# Altium integrated library Dallas Memory Non-Volatile RAM.IntLib: 259 symbols (part 3 of 5)
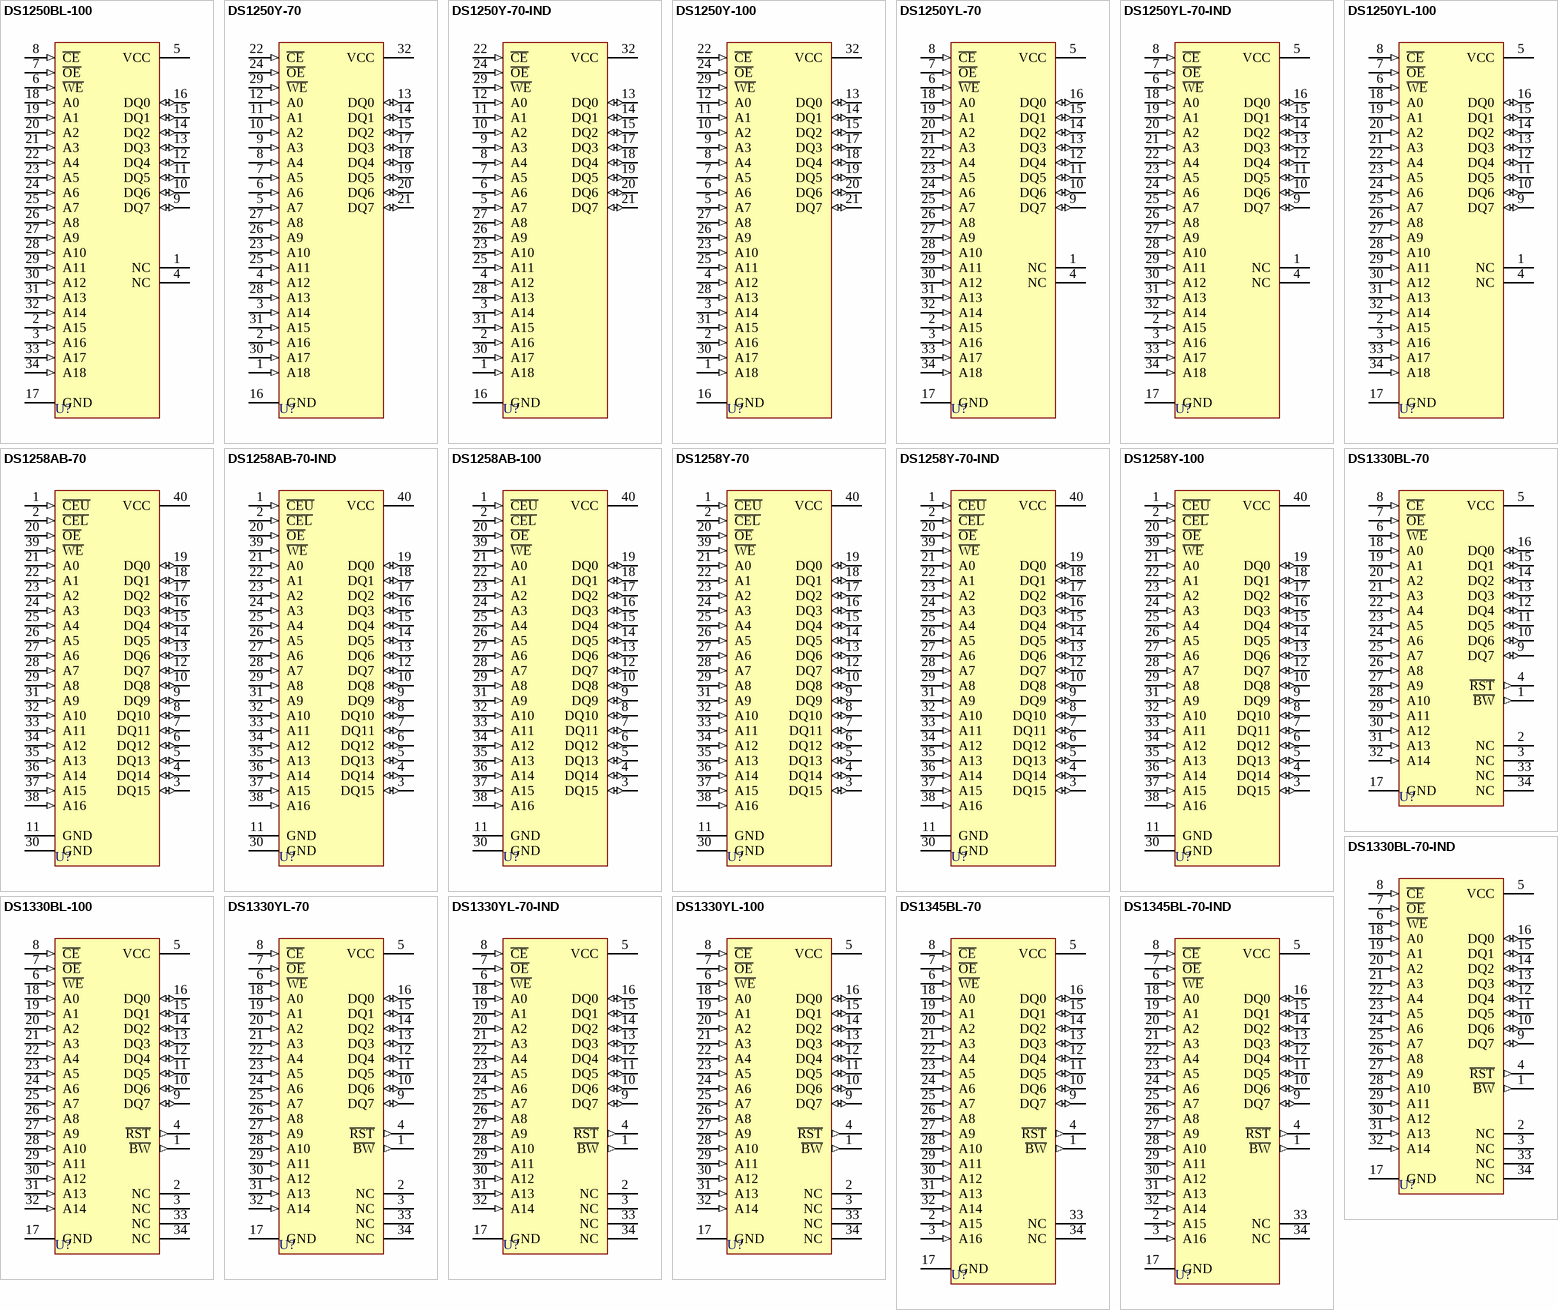
[diagram p13: symbols DS1250BL-100 to DS1345BL-70-IND]

## DS1250YL-100
designator U?
4096K Nonvolatile SRAM; Note: Pin numbers 1 and 4 are Not Connected (NC); Published: 13-Oct-2000; LatestRevisionDate: 17-Jul-2002; LatestRevisionNote: Re-released for DXP Platform.; DatasheetDocument: 25-Feb-1998; PackageDocument: Feb-1998; PackageReference: LPM34; Publisher: Altium Limited; ComponentLink1Description: Manufacturer Link; ComponentLink1URL: http://www.maxim-ic.com/; ComponentLink2Description: Datasheet; ComponentLink2URL: http://pdfserv.maxim-ic.com/en/ds/DS1233M.pdf
footprint LPM34 (LPM; 34 Leads; Body 24.6 x 25 mm (LxW typ); Pitch 1.27 mm)
pins: 1 NC, 2 A15 (in), 3 A16 (in), 4 NC, 5 VCC (power), 6 ~{WE} (in), 7 ~{OE} (in), 8 ~{CE} (in), 9 DQ7 (io), 10 DQ6 (io), 11 DQ5 (io), 12 DQ4 (io), 13 DQ3 (io), 14 DQ2 (io), 15 DQ1 (io), 16 DQ0 (io), 17 GND (power), 18 A0 (in), 19 A1 (in), 20 A2 (in), 21 A3 (in), 22 A4 (in), 23 A5 (in), 24 A6 (in), 25 A7 (in), 26 A8 (in), 27 A9 (in), 28 A10 (in), 29 A11 (in), 30 A12 (in), 31 A13 (in), 32 A14 (in), 33 A17 (in), 34 A18 (in)

## DS1258AB-70
designator U?
128K x 16 Nonvolatile SRAM; Published: 13-Oct-2000; LatestRevisionDate: 17-Jul-2002; LatestRevisionNote: Re-released for DXP Platform.; DatasheetDocument: 25-Feb-1998; PackageReference: ENDIP40; Publisher: Altium Limited; ComponentLink1Description: Manufacturer Link; ComponentLink1URL: http://www.maxim-ic.com/; ComponentLink2Description: Datasheet; ComponentLink2URL: http://pdfserv.maxim-ic.com/en/ds/DS1233M.pdf
footprint ENDIP40 (DIP; 40 Rectangular Pins; Row Space 15.24 mm; Pitch 2.54 mm)
pins: 1 ~{CEU} (in), 2 ~{CEL} (in), 3 DQ15 (io), 4 DQ14 (io), 5 DQ13 (io), 6 DQ12 (io), 7 DQ11 (io), 8 DQ10 (io), 9 DQ9 (io), 10 DQ8 (io), 11 GND (power), 12 DQ7 (io), 13 DQ6 (io), 14 DQ5 (io), 15 DQ4 (io), 16 DQ3 (io), 17 DQ2 (io), 18 DQ1 (io), 19 DQ0 (io), 20 ~{OE} (in), 21 A0 (in), 22 A1 (in), 23 A2 (in), 24 A3 (in), 25 A4 (in), 26 A5 (in), 27 A6 (in), 28 A7 (in), 29 A8 (in), 30 GND (power), 31 A9 (in), 32 A10 (in), 33 A11 (in), 34 A12 (in), 35 A13 (in), 36 A14 (in), 37 A15 (in), 38 A16 (in), 39 ~{WE} (in), 40 VCC (power)

## DS1258AB-70-IND
designator U?
128K x 16 Nonvolatile SRAM; Published: 13-Oct-2000; LatestRevisionDate: 17-Jul-2002; LatestRevisionNote: Re-released for DXP Platform.; DatasheetDocument: 25-Feb-1998; PackageReference: ENDIP40; Publisher: Altium Limited; ComponentLink1Description: Manufacturer Link; ComponentLink1URL: http://www.maxim-ic.com/; ComponentLink2Description: Datasheet; ComponentLink2URL: http://pdfserv.maxim-ic.com/en/ds/DS1233M.pdf
footprint ENDIP40 (DIP; 40 Rectangular Pins; Row Space 15.24 mm; Pitch 2.54 mm)
pins: 1 ~{CEU} (in), 2 ~{CEL} (in), 3 DQ15 (io), 4 DQ14 (io), 5 DQ13 (io), 6 DQ12 (io), 7 DQ11 (io), 8 DQ10 (io), 9 DQ9 (io), 10 DQ8 (io), 11 GND (power), 12 DQ7 (io), 13 DQ6 (io), 14 DQ5 (io), 15 DQ4 (io), 16 DQ3 (io), 17 DQ2 (io), 18 DQ1 (io), 19 DQ0 (io), 20 ~{OE} (in), 21 A0 (in), 22 A1 (in), 23 A2 (in), 24 A3 (in), 25 A4 (in), 26 A5 (in), 27 A6 (in), 28 A7 (in), 29 A8 (in), 30 GND (power), 31 A9 (in), 32 A10 (in), 33 A11 (in), 34 A12 (in), 35 A13 (in), 36 A14 (in), 37 A15 (in), 38 A16 (in), 39 ~{WE} (in), 40 VCC (power)

## DS1258AB-100
designator U?
128K x 16 Nonvolatile SRAM; Published: 13-Oct-2000; LatestRevisionDate: 17-Jul-2002; LatestRevisionNote: Re-released for DXP Platform.; DatasheetDocument: 25-Feb-1998; PackageReference: ENDIP40; Publisher: Altium Limited; ComponentLink1Description: Manufacturer Link; ComponentLink1URL: http://www.maxim-ic.com/; ComponentLink2Description: Datasheet; ComponentLink2URL: http://pdfserv.maxim-ic.com/en/ds/DS1233M.pdf
footprint ENDIP40 (DIP; 40 Rectangular Pins; Row Space 15.24 mm; Pitch 2.54 mm)
pins: 1 ~{CEU} (in), 2 ~{CEL} (in), 3 DQ15 (io), 4 DQ14 (io), 5 DQ13 (io), 6 DQ12 (io), 7 DQ11 (io), 8 DQ10 (io), 9 DQ9 (io), 10 DQ8 (io), 11 GND (power), 12 DQ7 (io), 13 DQ6 (io), 14 DQ5 (io), 15 DQ4 (io), 16 DQ3 (io), 17 DQ2 (io), 18 DQ1 (io), 19 DQ0 (io), 20 ~{OE} (in), 21 A0 (in), 22 A1 (in), 23 A2 (in), 24 A3 (in), 25 A4 (in), 26 A5 (in), 27 A6 (in), 28 A7 (in), 29 A8 (in), 30 GND (power), 31 A9 (in), 32 A10 (in), 33 A11 (in), 34 A12 (in), 35 A13 (in), 36 A14 (in), 37 A15 (in), 38 A16 (in), 39 ~{WE} (in), 40 VCC (power)

## DS1258Y-70
designator U?
128K x 16 Nonvolatile SRAM; Published: 13-Oct-2000; LatestRevisionDate: 17-Jul-2002; LatestRevisionNote: Re-released for DXP Platform.; DatasheetDocument: 25-Feb-1998; PackageReference: ENDIP40; Publisher: Altium Limited; ComponentLink1Description: Manufacturer Link; ComponentLink1URL: http://www.maxim-ic.com/; ComponentLink2Description: Datasheet; ComponentLink2URL: http://pdfserv.maxim-ic.com/en/ds/DS1233M.pdf
footprint ENDIP40 (DIP; 40 Rectangular Pins; Row Space 15.24 mm; Pitch 2.54 mm)
pins: 1 ~{CEU} (in), 2 ~{CEL} (in), 3 DQ15 (io), 4 DQ14 (io), 5 DQ13 (io), 6 DQ12 (io), 7 DQ11 (io), 8 DQ10 (io), 9 DQ9 (io), 10 DQ8 (io), 11 GND (power), 12 DQ7 (io), 13 DQ6 (io), 14 DQ5 (io), 15 DQ4 (io), 16 DQ3 (io), 17 DQ2 (io), 18 DQ1 (io), 19 DQ0 (io), 20 ~{OE} (in), 21 A0 (in), 22 A1 (in), 23 A2 (in), 24 A3 (in), 25 A4 (in), 26 A5 (in), 27 A6 (in), 28 A7 (in), 29 A8 (in), 30 GND (power), 31 A9 (in), 32 A10 (in), 33 A11 (in), 34 A12 (in), 35 A13 (in), 36 A14 (in), 37 A15 (in), 38 A16 (in), 39 ~{WE} (in), 40 VCC (power)

## DS1258Y-70-IND
designator U?
128K x 16 Nonvolatile SRAM; Published: 13-Oct-2000; LatestRevisionDate: 17-Jul-2002; LatestRevisionNote: Re-released for DXP Platform.; DatasheetDocument: 25-Feb-1998; PackageReference: ENDIP40; Publisher: Altium Limited; ComponentLink1Description: Manufacturer Link; ComponentLink1URL: http://www.maxim-ic.com/; ComponentLink2Description: Datasheet; ComponentLink2URL: http://pdfserv.maxim-ic.com/en/ds/DS1258AB-DS1258Y.pdf
footprint ENDIP40 (DIP; 40 Rectangular Pins; Row Space 15.24 mm; Pitch 2.54 mm)
pins: 1 ~{CEU} (in), 2 ~{CEL} (in), 3 DQ15 (io), 4 DQ14 (io), 5 DQ13 (io), 6 DQ12 (io), 7 DQ11 (io), 8 DQ10 (io), 9 DQ9 (io), 10 DQ8 (io), 11 GND (power), 12 DQ7 (io), 13 DQ6 (io), 14 DQ5 (io), 15 DQ4 (io), 16 DQ3 (io), 17 DQ2 (io), 18 DQ1 (io), 19 DQ0 (io), 20 ~{OE} (in), 21 A0 (in), 22 A1 (in), 23 A2 (in), 24 A3 (in), 25 A4 (in), 26 A5 (in), 27 A6 (in), 28 A7 (in), 29 A8 (in), 30 GND (power), 31 A9 (in), 32 A10 (in), 33 A11 (in), 34 A12 (in), 35 A13 (in), 36 A14 (in), 37 A15 (in), 38 A16 (in), 39 ~{WE} (in), 40 VCC (power)

## DS1258Y-100
designator U?
128K x 16 Nonvolatile SRAM; Published: 13-Oct-2000; LatestRevisionDate: 17-Jul-2002; LatestRevisionNote: Re-released for DXP Platform.; DatasheetDocument: 25-Feb-1998; PackageReference: ENDIP40; Publisher: Altium Limited; ComponentLink1Description: Manufacturer Link; ComponentLink1URL: http://www.maxim-ic.com/; ComponentLink2Description: Datasheet; ComponentLink2URL: http://pdfserv.maxim-ic.com/en/ds/DS1233M.pdf
footprint ENDIP40 (DIP; 40 Rectangular Pins; Row Space 15.24 mm; Pitch 2.54 mm)
pins: 1 ~{CEU} (in), 2 ~{CEL} (in), 3 DQ15 (io), 4 DQ14 (io), 5 DQ13 (io), 6 DQ12 (io), 7 DQ11 (io), 8 DQ10 (io), 9 DQ9 (io), 10 DQ8 (io), 11 GND (power), 12 DQ7 (io), 13 DQ6 (io), 14 DQ5 (io), 15 DQ4 (io), 16 DQ3 (io), 17 DQ2 (io), 18 DQ1 (io), 19 DQ0 (io), 20 ~{OE} (in), 21 A0 (in), 22 A1 (in), 23 A2 (in), 24 A3 (in), 25 A4 (in), 26 A5 (in), 27 A6 (in), 28 A7 (in), 29 A8 (in), 30 GND (power), 31 A9 (in), 32 A10 (in), 33 A11 (in), 34 A12 (in), 35 A13 (in), 36 A14 (in), 37 A15 (in), 38 A16 (in), 39 ~{WE} (in), 40 VCC (power)

## DS1330BL-70
designator U?
256K Nonvolatile SRAM with Battery Monitor; Note: Pin numbers 2, 3, 33 and 34 are Not Connected (NC); Published: 13-Oct-2000; LatestRevisionDate: 17-Jul-2002; LatestRevisionNote: Re-released for DXP Platform.; DatasheetDocument: 25-Feb-1998; PackageDocument: Feb-1998; PackageReference: LPM34; Publisher: Altium Limited; ComponentLink1Description: Manufacturer Link; ComponentLink1URL: http://www.maxim-ic.com/; ComponentLink2Description: Datasheet; ComponentLink2URL: http://pdfserv.maxim-ic.com/en/ds/DS1330AB-DS1330Y.pdf
footprint LPM34 (LPM; 34 Leads; Body 24.6 x 25 mm (LxW typ); Pitch 1.27 mm)
pins: 1 ~{BW} (out), 2 NC, 3 NC, 4 ~{RST} (out), 5 VCC (power), 6 ~{WE} (in), 7 ~{OE} (in), 8 ~{CE} (in), 9 DQ7 (io), 10 DQ6 (io), 11 DQ5 (io), 12 DQ4 (io), 13 DQ3 (io), 14 DQ2 (io), 15 DQ1 (io), 16 DQ0 (io), 17 GND (power), 18 A0 (in), 19 A1 (in), 20 A2 (in), 21 A3 (in), 22 A4 (in), 23 A5 (in), 24 A6 (in), 25 A7 (in), 26 A8 (in), 27 A9 (in), 28 A10 (in), 29 A11 (in), 30 A12 (in), 31 A13 (in), 32 A14 (in), 33 NC, 34 NC

## DS1330BL-70-IND
designator U?
256K Nonvolatile SRAM with Battery Monitor; Note: Pin numbers 2, 3, 33 and 34 are Not Connected (NC); Published: 13-Oct-2000; LatestRevisionDate: 17-Jul-2002; LatestRevisionNote: Re-released for DXP Platform.; DatasheetDocument: 25-Feb-1998; PackageDocument: Feb-1998; PackageReference: LPM34; Publisher: Altium Limited; ComponentLink1Description: Manufacturer Link; ComponentLink1URL: http://www.maxim-ic.com/; ComponentLink2Description: Datasheet; ComponentLink2URL: http://pdfserv.maxim-ic.com/en/ds/DS1330AB-DS1330Y.pdf
footprint LPM34 (LPM; 34 Leads; Body 24.6 x 25 mm (LxW typ); Pitch 1.27 mm)
pins: 1 ~{BW} (out), 2 NC, 3 NC, 4 ~{RST} (out), 5 VCC (power), 6 ~{WE} (in), 7 ~{OE} (in), 8 ~{CE} (in), 9 DQ7 (io), 10 DQ6 (io), 11 DQ5 (io), 12 DQ4 (io), 13 DQ3 (io), 14 DQ2 (io), 15 DQ1 (io), 16 DQ0 (io), 17 GND (power), 18 A0 (in), 19 A1 (in), 20 A2 (in), 21 A3 (in), 22 A4 (in), 23 A5 (in), 24 A6 (in), 25 A7 (in), 26 A8 (in), 27 A9 (in), 28 A10 (in), 29 A11 (in), 30 A12 (in), 31 A13 (in), 32 A14 (in), 33 NC, 34 NC

## DS1330BL-100
designator U?
256K Nonvolatile SRAM with Battery Monitor; Note: Pin numbers 2, 3, 33 and 34 are Not Connected (NC); Published: 13-Oct-2000; LatestRevisionDate: 17-Jul-2002; LatestRevisionNote: Re-released for DXP Platform.; DatasheetDocument: 25-Feb-1998; PackageDocument: Feb-1998; PackageReference: LPM34; Publisher: Altium Limited; ComponentLink1Description: Manufacturer Link; ComponentLink1URL: http://www.maxim-ic.com/; ComponentLink2Description: Datasheet; ComponentLink2URL: http://pdfserv.maxim-ic.com/en/ds/DS1330AB-DS1330Y.pdf
footprint LPM34 (LPM; 34 Leads; Body 24.6 x 25 mm (LxW typ); Pitch 1.27 mm)
pins: 1 ~{BW} (out), 2 NC, 3 NC, 4 ~{RST} (out), 5 VCC (power), 6 ~{WE} (in), 7 ~{OE} (in), 8 ~{CE} (in), 9 DQ7 (io), 10 DQ6 (io), 11 DQ5 (io), 12 DQ4 (io), 13 DQ3 (io), 14 DQ2 (io), 15 DQ1 (io), 16 DQ0 (io), 17 GND (power), 18 A0 (in), 19 A1 (in), 20 A2 (in), 21 A3 (in), 22 A4 (in), 23 A5 (in), 24 A6 (in), 25 A7 (in), 26 A8 (in), 27 A9 (in), 28 A10 (in), 29 A11 (in), 30 A12 (in), 31 A13 (in), 32 A14 (in), 33 NC, 34 NC

## DS1330YL-70
designator U?
256K Nonvolatile SRAM with Battery Monitor; Note: Pin numbers 2, 3, 33 and 34 are Not Connected (NC); Published: 13-Oct-2000; LatestRevisionDate: 17-Jul-2002; LatestRevisionNote: Re-released for DXP Platform.; DatasheetDocument: 25-Feb-1998; PackageDocument: Feb-1998; PackageReference: LPM34; Publisher: Altium Limited; ComponentLink1Description: Manufacturer Link; ComponentLink1URL: http://www.maxim-ic.com/; ComponentLink2Description: Datasheet; ComponentLink2URL: http://pdfserv.maxim-ic.com/en/ds/DS1330AB-DS1330Y.pdf
footprint LPM34 (LPM; 34 Leads; Body 24.6 x 25 mm (LxW typ); Pitch 1.27 mm)
pins: 1 ~{BW} (out), 2 NC, 3 NC, 4 ~{RST} (out), 5 VCC (power), 6 ~{WE} (in), 7 ~{OE} (in), 8 ~{CE} (in), 9 DQ7 (io), 10 DQ6 (io), 11 DQ5 (io), 12 DQ4 (io), 13 DQ3 (io), 14 DQ2 (io), 15 DQ1 (io), 16 DQ0 (io), 17 GND (power), 18 A0 (in), 19 A1 (in), 20 A2 (in), 21 A3 (in), 22 A4 (in), 23 A5 (in), 24 A6 (in), 25 A7 (in), 26 A8 (in), 27 A9 (in), 28 A10 (in), 29 A11 (in), 30 A12 (in), 31 A13 (in), 32 A14 (in), 33 NC, 34 NC

## DS1330YL-70-IND
designator U?
256K Nonvolatile SRAM with Battery Monitor; Note: Pin numbers 2, 3, 33 and 34 are Not Connected (NC); Published: 13-Oct-2000; LatestRevisionDate: 17-Jul-2002; LatestRevisionNote: Re-released for DXP Platform.; DatasheetDocument: 25-Feb-1998; PackageDocument: Feb-1998; PackageReference: LPM34; Publisher: Altium Limited; ComponentLink1Description: Manufacturer Link; ComponentLink1URL: http://www.maxim-ic.com/; ComponentLink2Description: Datasheet; ComponentLink2URL: http://pdfserv.maxim-ic.com/en/ds/DS1330AB-DS1330Y.pdf
footprint LPM34 (LPM; 34 Leads; Body 24.6 x 25 mm (LxW typ); Pitch 1.27 mm)
pins: 1 ~{BW} (out), 2 NC, 3 NC, 4 ~{RST} (out), 5 VCC (power), 6 ~{WE} (in), 7 ~{OE} (in), 8 ~{CE} (in), 9 DQ7 (io), 10 DQ6 (io), 11 DQ5 (io), 12 DQ4 (io), 13 DQ3 (io), 14 DQ2 (io), 15 DQ1 (io), 16 DQ0 (io), 17 GND (power), 18 A0 (in), 19 A1 (in), 20 A2 (in), 21 A3 (in), 22 A4 (in), 23 A5 (in), 24 A6 (in), 25 A7 (in), 26 A8 (in), 27 A9 (in), 28 A10 (in), 29 A11 (in), 30 A12 (in), 31 A13 (in), 32 A14 (in), 33 NC, 34 NC

## DS1330YL-100
designator U?
256K Nonvolatile SRAM with Battery Monitor; Note: Pin numbers 2, 3, 33 and 34 are Not Connected (NC); Published: 13-Oct-2000; LatestRevisionDate: 17-Jul-2002; LatestRevisionNote: Re-released for DXP Platform.; DatasheetDocument: 25-Feb-1998; PackageDocument: Feb-1998; PackageReference: LPM34; Publisher: Altium Limited; ComponentLink1Description: Manufacturer Link; ComponentLink1URL: http://www.maxim-ic.com/; ComponentLink2Description: Datasheet; ComponentLink2URL: http://pdfserv.maxim-ic.com/en/ds/DS1330AB-DS1330Y.pdf
footprint LPM34 (LPM; 34 Leads; Body 24.6 x 25 mm (LxW typ); Pitch 1.27 mm)
pins: 1 ~{BW} (out), 2 NC, 3 NC, 4 ~{RST} (out), 5 VCC (power), 6 ~{WE} (in), 7 ~{OE} (in), 8 ~{CE} (in), 9 DQ7 (io), 10 DQ6 (io), 11 DQ5 (io), 12 DQ4 (io), 13 DQ3 (io), 14 DQ2 (io), 15 DQ1 (io), 16 DQ0 (io), 17 GND (power), 18 A0 (in), 19 A1 (in), 20 A2 (in), 21 A3 (in), 22 A4 (in), 23 A5 (in), 24 A6 (in), 25 A7 (in), 26 A8 (in), 27 A9 (in), 28 A10 (in), 29 A11 (in), 30 A12 (in), 31 A13 (in), 32 A14 (in), 33 NC, 34 NC

## DS1345BL-70
designator U?
1024K Nonvolatile SRAM with Battery Monitor; Note: Pin numbers 33 and 34 are Not Connected (NC); Published: 13-Oct-2000; LatestRevisionDate: 17-Jul-2002; LatestRevisionNote: Re-released for DXP Platform.; DatasheetDocument: 25-Feb-1998; PackageDocument: Feb-1998; PackageReference: LPM34; Publisher: Altium Limited; ComponentLink1Description: Manufacturer Link; ComponentLink1URL: http://www.maxim-ic.com/; ComponentLink2Description: Datasheet; ComponentLink2URL: http://pdfserv.maxim-ic.com/en/ds/DS1345AB-DS1345Y.pdf
footprint LPM34 (LPM; 34 Leads; Body 24.6 x 25 mm (LxW typ); Pitch 1.27 mm)
pins: 1 ~{BW} (out), 2 A15 (in), 3 A16 (in), 4 ~{RST} (out), 5 VCC (power), 6 ~{WE} (in), 7 ~{OE} (in), 8 ~{CE} (in), 9 DQ7 (io), 10 DQ6 (io), 11 DQ5 (io), 12 DQ4 (io), 13 DQ3 (io), 14 DQ2 (io), 15 DQ1 (io), 16 DQ0 (io), 17 GND (power), 18 A0 (in), 19 A1 (in), 20 A2 (in), 21 A3 (in), 22 A4 (in), 23 A5 (in), 24 A6 (in), 25 A7 (in), 26 A8 (in), 27 A9 (in), 28 A10 (in), 29 A11 (in), 30 A12 (in), 31 A13 (in), 32 A14 (in), 33 NC, 34 NC

## DS1345BL-70-IND
designator U?
1024K Nonvolatile SRAM with Battery Monitor; Note: Pin numbers 33 and 34 are Not Connected (NC); Published: 13-Oct-2000; LatestRevisionDate: 17-Jul-2002; LatestRevisionNote: Re-released for DXP Platform.; DatasheetDocument: 25-Feb-1998; PackageDocument: Feb-1998; PackageReference: LPM34; Publisher: Altium Limited; ComponentLink1Description: Manufacturer Link; ComponentLink1URL: http://www.maxim-ic.com/; ComponentLink2Description: Datasheet; ComponentLink2URL: http://pdfserv.maxim-ic.com/en/ds/DS1345AB-DS1345Y.pdf
footprint LPM34 (LPM; 34 Leads; Body 24.6 x 25 mm (LxW typ); Pitch 1.27 mm)
pins: 1 ~{BW} (out), 2 A15 (in), 3 A16 (in), 4 ~{RST} (out), 5 VCC (power), 6 ~{WE} (in), 7 ~{OE} (in), 8 ~{CE} (in), 9 DQ7 (io), 10 DQ6 (io), 11 DQ5 (io), 12 DQ4 (io), 13 DQ3 (io), 14 DQ2 (io), 15 DQ1 (io), 16 DQ0 (io), 17 GND (power), 18 A0 (in), 19 A1 (in), 20 A2 (in), 21 A3 (in), 22 A4 (in), 23 A5 (in), 24 A6 (in), 25 A7 (in), 26 A8 (in), 27 A9 (in), 28 A10 (in), 29 A11 (in), 30 A12 (in), 31 A13 (in), 32 A14 (in), 33 NC, 34 NC

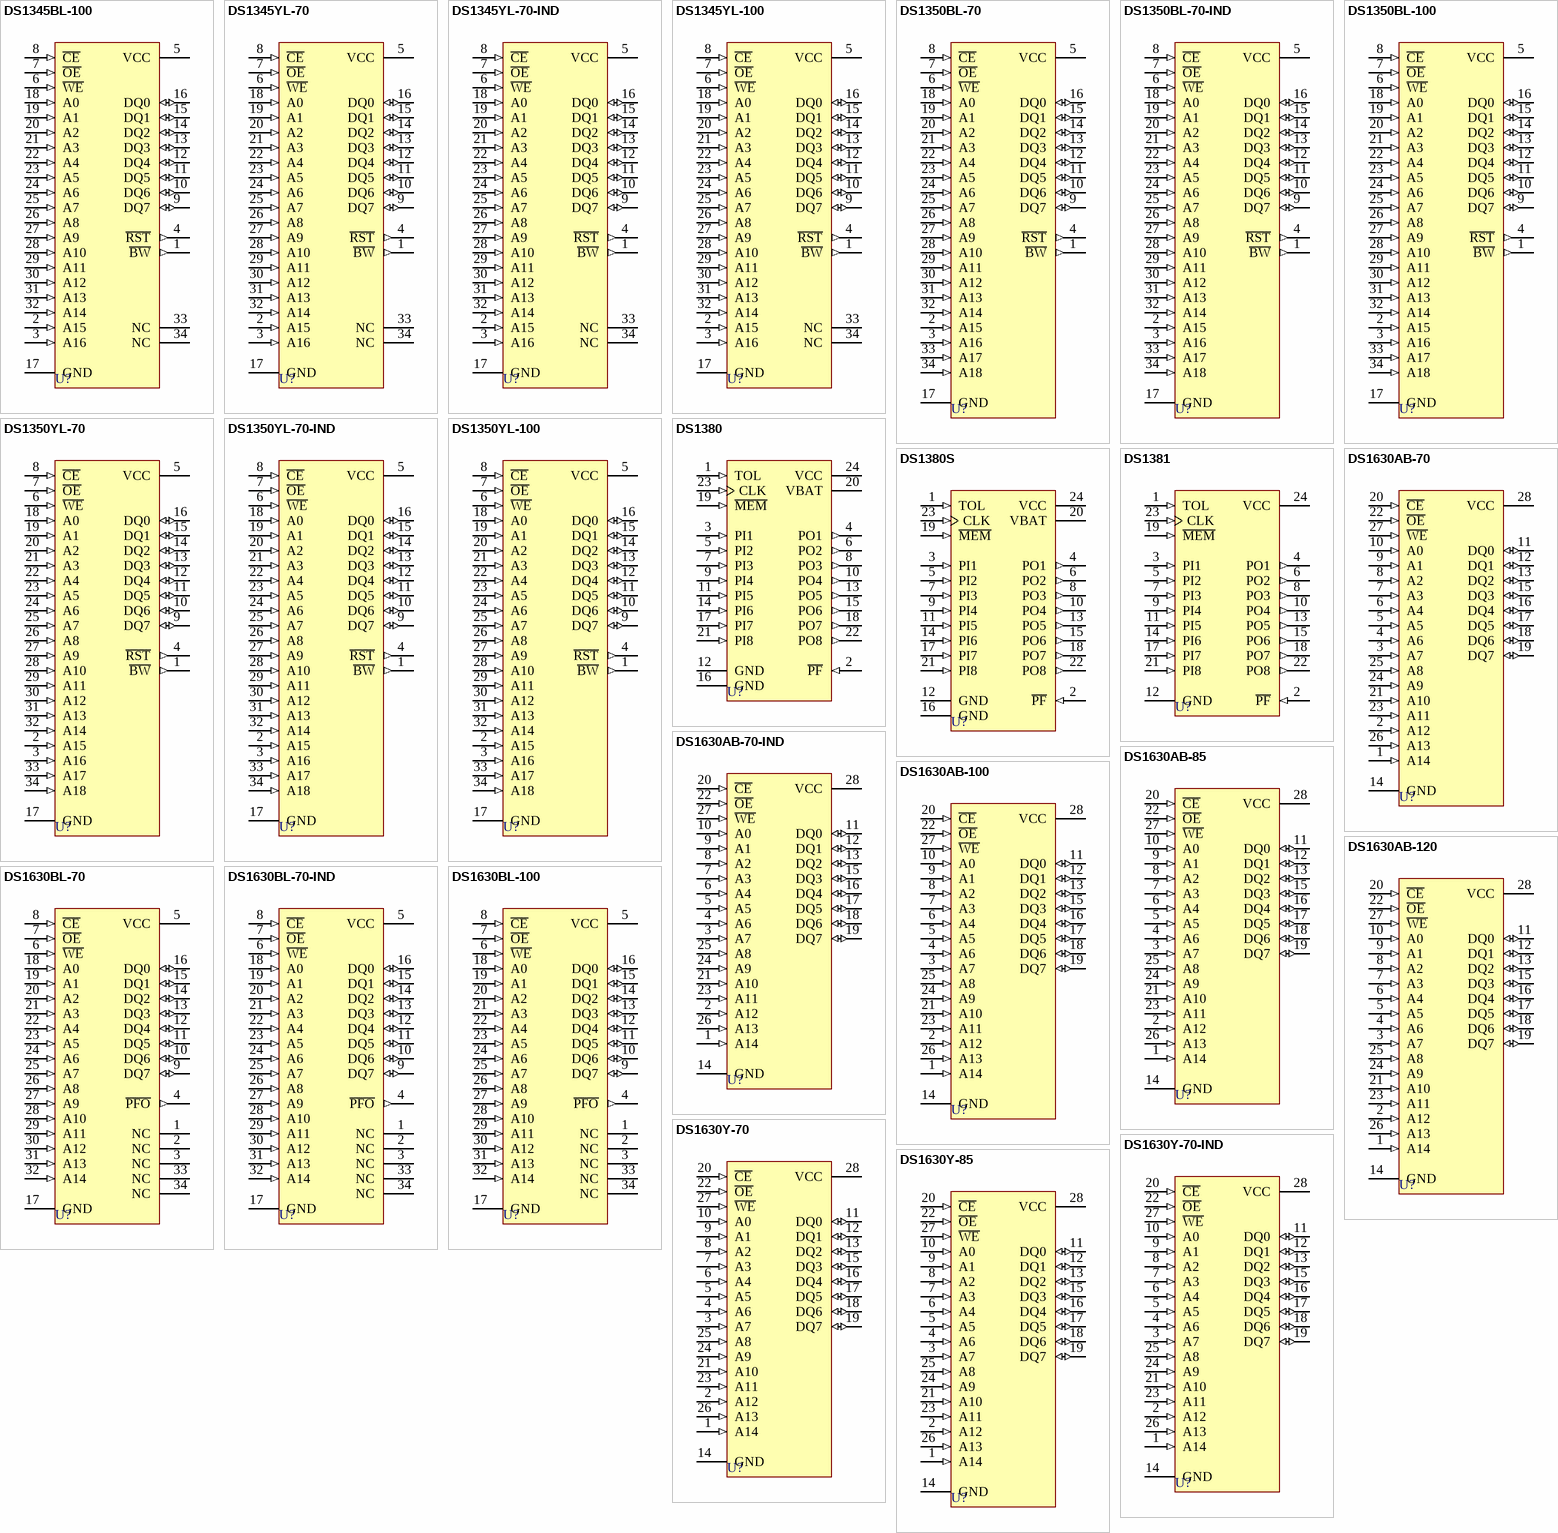
[diagram p5: symbols DS1345BL-100 to DS1630Y-85]

## DS1345BL-100
designator U?
1024K Nonvolatile SRAM with Battery Monitor; Note: Pin numbers 33 and 34 are Not Connected (NC); Published: 13-Oct-2000; LatestRevisionDate: 17-Jul-2002; LatestRevisionNote: Re-released for DXP Platform.; DatasheetDocument: 25-Feb-1998; PackageDocument: Feb-1998; PackageReference: LPM34; Publisher: Altium Limited; ComponentLink1Description: Manufacturer Link; ComponentLink1URL: http://www.maxim-ic.com/; ComponentLink2Description: Datasheet; ComponentLink2URL: http://pdfserv.maxim-ic.com/en/ds/DS1345AB-DS1345Y.pdf
footprint LPM34 (LPM; 34 Leads; Body 24.6 x 25 mm (LxW typ); Pitch 1.27 mm)
pins: 1 ~{BW} (out), 2 A15 (in), 3 A16 (in), 4 ~{RST} (out), 5 VCC (power), 6 ~{WE} (in), 7 ~{OE} (in), 8 ~{CE} (in), 9 DQ7 (io), 10 DQ6 (io), 11 DQ5 (io), 12 DQ4 (io), 13 DQ3 (io), 14 DQ2 (io), 15 DQ1 (io), 16 DQ0 (io), 17 GND (power), 18 A0 (in), 19 A1 (in), 20 A2 (in), 21 A3 (in), 22 A4 (in), 23 A5 (in), 24 A6 (in), 25 A7 (in), 26 A8 (in), 27 A9 (in), 28 A10 (in), 29 A11 (in), 30 A12 (in), 31 A13 (in), 32 A14 (in), 33 NC, 34 NC

## DS1345YL-70
designator U?
1024K Nonvolatile SRAM with Battery Monitor; Note: Pin numbers 33 and 34 are Not Connected (NC); Published: 13-Oct-2000; LatestRevisionDate: 17-Jul-2002; LatestRevisionNote: Re-released for DXP Platform.; DatasheetDocument: 25-Feb-1998; PackageDocument: Feb-1998; PackageReference: LPM34; Publisher: Altium Limited; ComponentLink1Description: Manufacturer Link; ComponentLink1URL: http://www.maxim-ic.com/; ComponentLink2Description: Datasheet; ComponentLink2URL: http://pdfserv.maxim-ic.com/en/ds/DS1345AB-DS1345Y.pdf
footprint LPM34 (LPM; 34 Leads; Body 24.6 x 25 mm (LxW typ); Pitch 1.27 mm)
pins: 1 ~{BW} (out), 2 A15 (in), 3 A16 (in), 4 ~{RST} (out), 5 VCC (power), 6 ~{WE} (in), 7 ~{OE} (in), 8 ~{CE} (in), 9 DQ7 (io), 10 DQ6 (io), 11 DQ5 (io), 12 DQ4 (io), 13 DQ3 (io), 14 DQ2 (io), 15 DQ1 (io), 16 DQ0 (io), 17 GND (power), 18 A0 (in), 19 A1 (in), 20 A2 (in), 21 A3 (in), 22 A4 (in), 23 A5 (in), 24 A6 (in), 25 A7 (in), 26 A8 (in), 27 A9 (in), 28 A10 (in), 29 A11 (in), 30 A12 (in), 31 A13 (in), 32 A14 (in), 33 NC, 34 NC

## DS1345YL-70-IND
designator U?
1024K Nonvolatile SRAM with Battery Monitor; Note: Pin numbers 33 and 34 are Not Connected (NC); Published: 13-Oct-2000; LatestRevisionDate: 17-Jul-2002; LatestRevisionNote: Re-released for DXP Platform.; DatasheetDocument: 25-Feb-1998; PackageDocument: Feb-1998; PackageReference: LPM34; Publisher: Altium Limited; ComponentLink1Description: Manufacturer Link; ComponentLink1URL: http://www.maxim-ic.com/; ComponentLink2Description: Datasheet; ComponentLink2URL: http://pdfserv.maxim-ic.com/en/ds/DS1345AB-DS1345Y.pdf
footprint LPM34 (LPM; 34 Leads; Body 24.6 x 25 mm (LxW typ); Pitch 1.27 mm)
pins: 1 ~{BW} (out), 2 A15 (in), 3 A16 (in), 4 ~{RST} (out), 5 VCC (power), 6 ~{WE} (in), 7 ~{OE} (in), 8 ~{CE} (in), 9 DQ7 (io), 10 DQ6 (io), 11 DQ5 (io), 12 DQ4 (io), 13 DQ3 (io), 14 DQ2 (io), 15 DQ1 (io), 16 DQ0 (io), 17 GND (power), 18 A0 (in), 19 A1 (in), 20 A2 (in), 21 A3 (in), 22 A4 (in), 23 A5 (in), 24 A6 (in), 25 A7 (in), 26 A8 (in), 27 A9 (in), 28 A10 (in), 29 A11 (in), 30 A12 (in), 31 A13 (in), 32 A14 (in), 33 NC, 34 NC

## DS1345YL-100
designator U?
1024K Nonvolatile SRAM with Battery Monitor; Note: Pin numbers 33 and 34 are Not Connected (NC); Published: 13-Oct-2000; LatestRevisionDate: 17-Jul-2002; LatestRevisionNote: Re-released for DXP Platform.; DatasheetDocument: 25-Feb-1998; PackageDocument: Feb-1998; PackageReference: LPM34; Publisher: Altium Limited; ComponentLink1Description: Manufacturer Link; ComponentLink1URL: http://www.maxim-ic.com/; ComponentLink2Description: Datasheet; ComponentLink2URL: http://pdfserv.maxim-ic.com/en/ds/DS1345AB-DS1345Y.pdf
footprint LPM34 (LPM; 34 Leads; Body 24.6 x 25 mm (LxW typ); Pitch 1.27 mm)
pins: 1 ~{BW} (out), 2 A15 (in), 3 A16 (in), 4 ~{RST} (out), 5 VCC (power), 6 ~{WE} (in), 7 ~{OE} (in), 8 ~{CE} (in), 9 DQ7 (io), 10 DQ6 (io), 11 DQ5 (io), 12 DQ4 (io), 13 DQ3 (io), 14 DQ2 (io), 15 DQ1 (io), 16 DQ0 (io), 17 GND (power), 18 A0 (in), 19 A1 (in), 20 A2 (in), 21 A3 (in), 22 A4 (in), 23 A5 (in), 24 A6 (in), 25 A7 (in), 26 A8 (in), 27 A9 (in), 28 A10 (in), 29 A11 (in), 30 A12 (in), 31 A13 (in), 32 A14 (in), 33 NC, 34 NC

## DS1350BL-70
designator U?
4096K Nonvolatile SRAM with Battery Monitor; Published: 13-Oct-2000; LatestRevisionDate: 17-Jul-2002; LatestRevisionNote: Re-released for DXP Platform.; DatasheetDocument: 25-Feb-1998; PackageDocument: Feb-1998; PackageReference: LPM34; Publisher: Altium Limited; ComponentLink1Description: Manufacturer Link; ComponentLink1URL: http://www.maxim-ic.com/; ComponentLink2Description: Datasheet; ComponentLink2URL: http://pdfserv.maxim-ic.com/en/ds/DS1350AB-DS1350Y.pdf
footprint LPM34 (LPM; 34 Leads; Body 24.6 x 25 mm (LxW typ); Pitch 1.27 mm)
pins: 1 ~{BW} (out), 2 A15 (in), 3 A16 (in), 4 ~{RST} (out), 5 VCC (power), 6 ~{WE} (in), 7 ~{OE} (in), 8 ~{CE} (in), 9 DQ7 (io), 10 DQ6 (io), 11 DQ5 (io), 12 DQ4 (io), 13 DQ3 (io), 14 DQ2 (io), 15 DQ1 (io), 16 DQ0 (io), 17 GND (power), 18 A0 (in), 19 A1 (in), 20 A2 (in), 21 A3 (in), 22 A4 (in), 23 A5 (in), 24 A6 (in), 25 A7 (in), 26 A8 (in), 27 A9 (in), 28 A10 (in), 29 A11 (in), 30 A12 (in), 31 A13 (in), 32 A14 (in), 33 A17 (in), 34 A18 (in)

## DS1350BL-70-IND
designator U?
4096K Nonvolatile SRAM with Battery Monitor; Published: 13-Oct-2000; LatestRevisionDate: 17-Jul-2002; LatestRevisionNote: Re-released for DXP Platform.; DatasheetDocument: 25-Feb-1998; PackageDocument: Feb-1998; PackageReference: LPM34; Publisher: Altium Limited; ComponentLink1Description: Manufacturer Link; ComponentLink1URL: http://www.maxim-ic.com/; ComponentLink2Description: Datasheet; ComponentLink2URL: http://pdfserv.maxim-ic.com/en/ds/DS1350AB-DS1350Y.pdf
footprint LPM34 (LPM; 34 Leads; Body 24.6 x 25 mm (LxW typ); Pitch 1.27 mm)
pins: 1 ~{BW} (out), 2 A15 (in), 3 A16 (in), 4 ~{RST} (out), 5 VCC (power), 6 ~{WE} (in), 7 ~{OE} (in), 8 ~{CE} (in), 9 DQ7 (io), 10 DQ6 (io), 11 DQ5 (io), 12 DQ4 (io), 13 DQ3 (io), 14 DQ2 (io), 15 DQ1 (io), 16 DQ0 (io), 17 GND (power), 18 A0 (in), 19 A1 (in), 20 A2 (in), 21 A3 (in), 22 A4 (in), 23 A5 (in), 24 A6 (in), 25 A7 (in), 26 A8 (in), 27 A9 (in), 28 A10 (in), 29 A11 (in), 30 A12 (in), 31 A13 (in), 32 A14 (in), 33 A17 (in), 34 A18 (in)

## DS1350BL-100
designator U?
4096K Nonvolatile SRAM with Battery Monitor; Published: 13-Oct-2000; LatestRevisionDate: 17-Jul-2002; LatestRevisionNote: Re-released for DXP Platform.; DatasheetDocument: 25-Feb-1998; PackageDocument: Feb-1998; PackageReference: LPM34; Publisher: Altium Limited; ComponentLink1Description: Manufacturer Link; ComponentLink1URL: http://www.maxim-ic.com/; ComponentLink2Description: Datasheet; ComponentLink2URL: http://pdfserv.maxim-ic.com/en/ds/DS1350AB-DS1350Y.pdf
footprint LPM34 (LPM; 34 Leads; Body 24.6 x 25 mm (LxW typ); Pitch 1.27 mm)
pins: 1 ~{BW} (out), 2 A15 (in), 3 A16 (in), 4 ~{RST} (out), 5 VCC (power), 6 ~{WE} (in), 7 ~{OE} (in), 8 ~{CE} (in), 9 DQ7 (io), 10 DQ6 (io), 11 DQ5 (io), 12 DQ4 (io), 13 DQ3 (io), 14 DQ2 (io), 15 DQ1 (io), 16 DQ0 (io), 17 GND (power), 18 A0 (in), 19 A1 (in), 20 A2 (in), 21 A3 (in), 22 A4 (in), 23 A5 (in), 24 A6 (in), 25 A7 (in), 26 A8 (in), 27 A9 (in), 28 A10 (in), 29 A11 (in), 30 A12 (in), 31 A13 (in), 32 A14 (in), 33 A17 (in), 34 A18 (in)

## DS1350YL-70
designator U?
4096K Nonvolatile SRAM with Battery Monitor; Published: 13-Oct-2000; LatestRevisionDate: 17-Jul-2002; LatestRevisionNote: Re-released for DXP Platform.; DatasheetDocument: 25-Feb-1998; PackageDocument: Feb-1998; PackageReference: LPM34; Publisher: Altium Limited; ComponentLink1Description: Manufacturer Link; ComponentLink1URL: http://www.maxim-ic.com/; ComponentLink2Description: Datasheet; ComponentLink2URL: http://pdfserv.maxim-ic.com/en/ds/DS1350AB-DS1350Y.pdf
footprint LPM34 (LPM; 34 Leads; Body 24.6 x 25 mm (LxW typ); Pitch 1.27 mm)
pins: 1 ~{BW} (out), 2 A15 (in), 3 A16 (in), 4 ~{RST} (out), 5 VCC (power), 6 ~{WE} (in), 7 ~{OE} (in), 8 ~{CE} (in), 9 DQ7 (io), 10 DQ6 (io), 11 DQ5 (io), 12 DQ4 (io), 13 DQ3 (io), 14 DQ2 (io), 15 DQ1 (io), 16 DQ0 (io), 17 GND (power), 18 A0 (in), 19 A1 (in), 20 A2 (in), 21 A3 (in), 22 A4 (in), 23 A5 (in), 24 A6 (in), 25 A7 (in), 26 A8 (in), 27 A9 (in), 28 A10 (in), 29 A11 (in), 30 A12 (in), 31 A13 (in), 32 A14 (in), 33 A17 (in), 34 A18 (in)

## DS1350YL-70-IND
designator U?
4096K Nonvolatile SRAM with Battery Monitor; Published: 13-Oct-2000; LatestRevisionDate: 17-Jul-2002; LatestRevisionNote: Re-released for DXP Platform.; DatasheetDocument: 25-Feb-1998; PackageDocument: Feb-1998; PackageReference: LPM34; Publisher: Altium Limited; ComponentLink1Description: Manufacturer Link; ComponentLink1URL: http://www.maxim-ic.com/; ComponentLink2Description: Datasheet; ComponentLink2URL: http://pdfserv.maxim-ic.com/en/ds/DS1350AB-DS1350Y.pdf
footprint LPM34 (LPM; 34 Leads; Body 24.6 x 25 mm (LxW typ); Pitch 1.27 mm)
pins: 1 ~{BW} (out), 2 A15 (in), 3 A16 (in), 4 ~{RST} (out), 5 VCC (power), 6 ~{WE} (in), 7 ~{OE} (in), 8 ~{CE} (in), 9 DQ7 (io), 10 DQ6 (io), 11 DQ5 (io), 12 DQ4 (io), 13 DQ3 (io), 14 DQ2 (io), 15 DQ1 (io), 16 DQ0 (io), 17 GND (power), 18 A0 (in), 19 A1 (in), 20 A2 (in), 21 A3 (in), 22 A4 (in), 23 A5 (in), 24 A6 (in), 25 A7 (in), 26 A8 (in), 27 A9 (in), 28 A10 (in), 29 A11 (in), 30 A12 (in), 31 A13 (in), 32 A14 (in), 33 A17 (in), 34 A18 (in)

## DS1350YL-100
designator U?
4096K Nonvolatile SRAM with Battery Monitor; Published: 13-Oct-2000; LatestRevisionDate: 17-Jul-2002; LatestRevisionNote: Re-released for DXP Platform.; DatasheetDocument: 25-Feb-1998; PackageDocument: Feb-1998; PackageReference: LPM34; Publisher: Altium Limited; ComponentLink1Description: Manufacturer Link; ComponentLink1URL: http://www.maxim-ic.com/; ComponentLink2Description: Datasheet; ComponentLink2URL: http://pdfserv.maxim-ic.com/en/ds/DS1350AB-DS1350Y.pdf
footprint LPM34 (LPM; 34 Leads; Body 24.6 x 25 mm (LxW typ); Pitch 1.27 mm)
pins: 1 ~{BW} (out), 2 A15 (in), 3 A16 (in), 4 ~{RST} (out), 5 VCC (power), 6 ~{WE} (in), 7 ~{OE} (in), 8 ~{CE} (in), 9 DQ7 (io), 10 DQ6 (io), 11 DQ5 (io), 12 DQ4 (io), 13 DQ3 (io), 14 DQ2 (io), 15 DQ1 (io), 16 DQ0 (io), 17 GND (power), 18 A0 (in), 19 A1 (in), 20 A2 (in), 21 A3 (in), 22 A4 (in), 23 A5 (in), 24 A6 (in), 25 A7 (in), 26 A8 (in), 27 A9 (in), 28 A10 (in), 29 A11 (in), 30 A12 (in), 31 A13 (in), 32 A14 (in), 33 A17 (in), 34 A18 (in)

## DS1380
designator U?
RAMport; PackageDocument: 1999; Published: 13-Oct-2000; LatestRevisionDate: 06-Jun-2005; LatestRevisionNote: Stylized 3D Model Added.; DatasheetDocument: 25-Feb-1998; PackageReference: DIP24W; Publisher: Altium Limited; ComponentLink1Description: Manufacturer Link; ComponentLink1URL: http://www.maxim-ic.com/; ComponentLink2Description: Datasheet; ComponentLink2URL: http://pdfserv.maxim-ic.com/en/ds/DS1380.pdf
footprint DIP24W (DIP; 24 Leads; Row Spacing 15.24 mm; Pitch 2.54 mm)
3D model DIP24W (DIP; 24 Leads; Row Spacing 15.24 mm; Pitch 2.54 mm)
pins: 1 TOL (in), 2 ~{PF} (in), 3 PI1 (in), 4 PO1 (out), 5 PI2 (in), 6 PO2 (out), 7 PI3 (in), 8 PO3 (out), 9 PI4 (in), 10 PO4 (out), 11 PI5 (in), 12 GND (power), 13 PO5 (out), 14 PI6 (in), 15 PO6 (out), 16 GND (power), 17 PI7 (in), 18 PO7 (out), 19 ~{MEM} (in), 20 VBAT (power), 21 PI8 (in), 22 PO8 (out), 23 CLK (in), 24 VCC (power)

## DS1380S
designator U?
RAMport; Published: 13-Oct-2000; LatestRevisionDate: 06-Jun-2005; LatestRevisionNote: Stylized 3D Model Added.; DatasheetDocument: 25-Feb-1998; PackageDocument: Feb-1998; PackageReference: SOIC24NB; Publisher: Altium Limited; ComponentLink1Description: Manufacturer Link; ComponentLink1URL: http://www.maxim-ic.com/; ComponentLink2Description: Datasheet; ComponentLink2URL: http://pdfserv.maxim-ic.com/en/ds/DS1380.pdf
footprint SOIC24NB (Small Outline; 24 Leads; Body Width 7.5 mm; Pitch 1.27 mm)
3D model SOIC24NB (Small Outline; 24 Leads; Body Width 7.5 mm; Pitch 1.27 mm)
pins: 1 TOL (in), 2 ~{PF} (in), 3 PI1 (in), 4 PO1 (out), 5 PI2 (in), 6 PO2 (out), 7 PI3 (in), 8 PO3 (out), 9 PI4 (in), 10 PO4 (out), 11 PI5 (in), 12 GND (power), 13 PO5 (out), 14 PI6 (in), 15 PO6 (out), 16 GND (power), 17 PI7 (in), 18 PO7 (out), 19 ~{MEM} (in), 20 VBAT (power), 21 PI8 (in), 22 PO8 (out), 23 CLK (in), 24 VCC (power)

## DS1381
designator U?
Nonvolatile RAMport; Note: Pin numbers 16 and 20 are Not Connected (NC); Published: 13-Oct-2000; LatestRevisionDate: 17-Jul-2002; LatestRevisionNote: PCB footprint, 'DIP-P22(24)/X1.2' replaced; Re-released for DXP Platform.; DatasheetDocument: 25-Feb-1998; PackageReference: ENDIP24C; Publisher: Altium Limited; ComponentLink1Description: Manufacturer Link; ComponentLink1URL: http://www.maxim-ic.com/; ComponentLink2Description: Datasheet; ComponentLink2URL: http://pdfserv.maxim-ic.com/en/ds/DS1381.pdf
footprint ENDIP24C (DIP; 24 Rectangular pins (2 Absent); Row Space 15.24 mm; Pitch 2.54 mm)
pins: 1 TOL (in), 2 ~{PF} (in), 3 PI1 (in), 4 PO1 (out), 5 PI2 (in), 6 PO2 (out), 7 PI3 (in), 8 PO3 (out), 9 PI4 (in), 10 PO4 (out), 11 PI5 (in), 12 GND (power), 13 PO5 (out), 14 PI6 (in), 15 PO6 (out), 17 PI7 (in), 18 PO7 (out), 19 ~{MEM} (in), 21 PI8 (in), 22 PO8 (out), 23 CLK (in), 24 VCC (power)

## DS1630AB-70
designator U?
Partitionable 256K Nonvolatile SRAM; Published: 13-Oct-2000; LatestRevisionDate: 17-Jul-2002; LatestRevisionNote: PCB footprint, 'DIP-P28/X1.2' replaced; Re-released for DXP Platform.; DatasheetDocument: 25-Feb-1998; PackageReference: ENDIP28A; Publisher: Altium Limited; ComponentLink1Description: Manufacturer Link; ComponentLink1URL: http://www.maxim-ic.com/
footprint ENDIP28A (DIP; 28 Rectangular Pins; Row Space 15.24 mm; Pitch 2.54 mm)
pins: 1 A14 (in), 2 A12 (in), 3 A7 (in), 4 A6 (in), 5 A5 (in), 6 A4 (in), 7 A3 (in), 8 A2 (in), 9 A1 (in), 10 A0 (in), 11 DQ0 (io), 12 DQ1 (io), 13 DQ2 (io), 14 GND (power), 15 DQ3 (io), 16 DQ4 (io), 17 DQ5 (io), 18 DQ6 (io), 19 DQ7 (io), 20 ~{CE} (in), 21 A10 (in), 22 ~{OE} (in), 23 A11 (in), 24 A9 (in), 25 A8 (in), 26 A13 (in), 27 ~{WE} (in), 28 VCC (power)

## DS1630AB-70-IND
designator U?
Partitionable 256K Nonvolatile SRAM; Published: 13-Oct-2000; LatestRevisionDate: 17-Jul-2002; LatestRevisionNote: PCB footprint, 'DIP-P28/X1.2' replaced; Re-released for DXP Platform.; DatasheetDocument: 25-Feb-1998; PackageReference: ENDIP28A; Publisher: Altium Limited; ComponentLink1Description: Manufacturer Link; ComponentLink1URL: http://www.maxim-ic.com/
footprint ENDIP28A (DIP; 28 Rectangular Pins; Row Space 15.24 mm; Pitch 2.54 mm)
pins: 1 A14 (in), 2 A12 (in), 3 A7 (in), 4 A6 (in), 5 A5 (in), 6 A4 (in), 7 A3 (in), 8 A2 (in), 9 A1 (in), 10 A0 (in), 11 DQ0 (io), 12 DQ1 (io), 13 DQ2 (io), 14 GND (power), 15 DQ3 (io), 16 DQ4 (io), 17 DQ5 (io), 18 DQ6 (io), 19 DQ7 (io), 20 ~{CE} (in), 21 A10 (in), 22 ~{OE} (in), 23 A11 (in), 24 A9 (in), 25 A8 (in), 26 A13 (in), 27 ~{WE} (in), 28 VCC (power)

## DS1630AB-85
designator U?
Partitionable 256K Nonvolatile SRAM; Published: 13-Oct-2000; LatestRevisionDate: 17-Jul-2002; LatestRevisionNote: PCB footprint, 'DIP-P28/X1.2' replaced; Re-released for DXP Platform.; DatasheetDocument: 25-Feb-1998; PackageReference: ENDIP28A; Publisher: Altium Limited; ComponentLink1Description: Manufacturer Link; ComponentLink1URL: http://www.maxim-ic.com/
footprint ENDIP28A (DIP; 28 Rectangular Pins; Row Space 15.24 mm; Pitch 2.54 mm)
pins: 1 A14 (in), 2 A12 (in), 3 A7 (in), 4 A6 (in), 5 A5 (in), 6 A4 (in), 7 A3 (in), 8 A2 (in), 9 A1 (in), 10 A0 (in), 11 DQ0 (io), 12 DQ1 (io), 13 DQ2 (io), 14 GND (power), 15 DQ3 (io), 16 DQ4 (io), 17 DQ5 (io), 18 DQ6 (io), 19 DQ7 (io), 20 ~{CE} (in), 21 A10 (in), 22 ~{OE} (in), 23 A11 (in), 24 A9 (in), 25 A8 (in), 26 A13 (in), 27 ~{WE} (in), 28 VCC (power)

## DS1630AB-100
designator U?
Partitionable 256K Nonvolatile SRAM; Published: 13-Oct-2000; LatestRevisionDate: 17-Jul-2002; LatestRevisionNote: PCB footprint, 'DIP-P28/X1.2' replaced; Re-released for DXP Platform.; DatasheetDocument: 25-Feb-1998; PackageReference: ENDIP28A; Publisher: Altium Limited; ComponentLink1Description: Manufacturer Link; ComponentLink1URL: http://www.maxim-ic.com/
footprint ENDIP28A (DIP; 28 Rectangular Pins; Row Space 15.24 mm; Pitch 2.54 mm)
pins: 1 A14 (in), 2 A12 (in), 3 A7 (in), 4 A6 (in), 5 A5 (in), 6 A4 (in), 7 A3 (in), 8 A2 (in), 9 A1 (in), 10 A0 (in), 11 DQ0 (io), 12 DQ1 (io), 13 DQ2 (io), 14 GND (power), 15 DQ3 (io), 16 DQ4 (io), 17 DQ5 (io), 18 DQ6 (io), 19 DQ7 (io), 20 ~{CE} (in), 21 A10 (in), 22 ~{OE} (in), 23 A11 (in), 24 A9 (in), 25 A8 (in), 26 A13 (in), 27 ~{WE} (in), 28 VCC (power)

## DS1630AB-120
designator U?
Partitionable 256K Nonvolatile SRAM; Published: 13-Oct-2000; LatestRevisionDate: 17-Jul-2002; LatestRevisionNote: PCB footprint, 'DIP-P28/X1.2' replaced; Re-released for DXP Platform.; DatasheetDocument: 25-Feb-1998; PackageReference: ENDIP28A; Publisher: Altium Limited; ComponentLink1Description: Manufacturer Link; ComponentLink1URL: http://www.maxim-ic.com/
footprint ENDIP28A (DIP; 28 Rectangular Pins; Row Space 15.24 mm; Pitch 2.54 mm)
pins: 1 A14 (in), 2 A12 (in), 3 A7 (in), 4 A6 (in), 5 A5 (in), 6 A4 (in), 7 A3 (in), 8 A2 (in), 9 A1 (in), 10 A0 (in), 11 DQ0 (io), 12 DQ1 (io), 13 DQ2 (io), 14 GND (power), 15 DQ3 (io), 16 DQ4 (io), 17 DQ5 (io), 18 DQ6 (io), 19 DQ7 (io), 20 ~{CE} (in), 21 A10 (in), 22 ~{OE} (in), 23 A11 (in), 24 A9 (in), 25 A8 (in), 26 A13 (in), 27 ~{WE} (in), 28 VCC (power)

## DS1630BL-70
designator U?
Partitionable 256K Nonvolatile SRAM; Note: Pin numbers 1, 2, 3, 33 and 34 are Not Connected (NC); Published: 13-Oct-2000; LatestRevisionDate: 17-Jul-2002; LatestRevisionNote: Re-released for DXP Platform.; DatasheetDocument: 25-Feb-1998; PackageDocument: Feb-1998; PackageReference: LPM34; Publisher: Altium Limited; ComponentLink1Description: Manufacturer Link; ComponentLink1URL: http://www.maxim-ic.com/
footprint LPM34 (LPM; 34 Leads; Body 24.6 x 25 mm (LxW typ); Pitch 1.27 mm)
pins: 1 NC, 2 NC, 3 NC, 4 ~{PFO} (out), 5 VCC (power), 6 ~{WE} (in), 7 ~{OE} (in), 8 ~{CE} (in), 9 DQ7 (io), 10 DQ6 (io), 11 DQ5 (io), 12 DQ4 (io), 13 DQ3 (io), 14 DQ2 (io), 15 DQ1 (io), 16 DQ0 (io), 17 GND (power), 18 A0 (in), 19 A1 (in), 20 A2 (in), 21 A3 (in), 22 A4 (in), 23 A5 (in), 24 A6 (in), 25 A7 (in), 26 A8 (in), 27 A9 (in), 28 A10 (in), 29 A11 (in), 30 A12 (in), 31 A13 (in), 32 A14 (in), 33 NC, 34 NC

## DS1630BL-70-IND
designator U?
Partitionable 256K Nonvolatile SRAM; Note: Pin numbers 1, 2, 3, 33 and 34 are Not Connected (NC); Published: 13-Oct-2000; LatestRevisionDate: 17-Jul-2002; LatestRevisionNote: Re-released for DXP Platform.; DatasheetDocument: 25-Feb-1998; PackageDocument: Feb-1998; PackageReference: LPM34; Publisher: Altium Limited; ComponentLink1Description: Manufacturer Link; ComponentLink1URL: http://www.maxim-ic.com/
footprint LPM34 (LPM; 34 Leads; Body 24.6 x 25 mm (LxW typ); Pitch 1.27 mm)
pins: 1 NC, 2 NC, 3 NC, 4 ~{PFO} (out), 5 VCC (power), 6 ~{WE} (in), 7 ~{OE} (in), 8 ~{CE} (in), 9 DQ7 (io), 10 DQ6 (io), 11 DQ5 (io), 12 DQ4 (io), 13 DQ3 (io), 14 DQ2 (io), 15 DQ1 (io), 16 DQ0 (io), 17 GND (power), 18 A0 (in), 19 A1 (in), 20 A2 (in), 21 A3 (in), 22 A4 (in), 23 A5 (in), 24 A6 (in), 25 A7 (in), 26 A8 (in), 27 A9 (in), 28 A10 (in), 29 A11 (in), 30 A12 (in), 31 A13 (in), 32 A14 (in), 33 NC, 34 NC

## DS1630BL-100
designator U?
Partitionable 256K Nonvolatile SRAM; Note: Pin numbers 1, 2, 3, 33 and 34 are Not Connected (NC); Published: 13-Oct-2000; LatestRevisionDate: 17-Jul-2002; LatestRevisionNote: Re-released for DXP Platform.; DatasheetDocument: 25-Feb-1998; PackageDocument: Feb-1998; PackageReference: LPM34; Publisher: Altium Limited; ComponentLink1Description: Manufacturer Link; ComponentLink1URL: http://www.maxim-ic.com/
footprint LPM34 (LPM; 34 Leads; Body 24.6 x 25 mm (LxW typ); Pitch 1.27 mm)
pins: 1 NC, 2 NC, 3 NC, 4 ~{PFO} (out), 5 VCC (power), 6 ~{WE} (in), 7 ~{OE} (in), 8 ~{CE} (in), 9 DQ7 (io), 10 DQ6 (io), 11 DQ5 (io), 12 DQ4 (io), 13 DQ3 (io), 14 DQ2 (io), 15 DQ1 (io), 16 DQ0 (io), 17 GND (power), 18 A0 (in), 19 A1 (in), 20 A2 (in), 21 A3 (in), 22 A4 (in), 23 A5 (in), 24 A6 (in), 25 A7 (in), 26 A8 (in), 27 A9 (in), 28 A10 (in), 29 A11 (in), 30 A12 (in), 31 A13 (in), 32 A14 (in), 33 NC, 34 NC

## DS1630Y-70
designator U?
Partitionable 256K Nonvolatile SRAM; Published: 13-Oct-2000; LatestRevisionDate: 17-Jul-2002; LatestRevisionNote: PCB footprint, 'DIP-P28/X1.2' replaced; Re-released for DXP Platform.; DatasheetDocument: 25-Feb-1998; PackageReference: ENDIP28A; Publisher: Altium Limited; ComponentLink1Description: Manufacturer Link; ComponentLink1URL: http://www.maxim-ic.com/
footprint ENDIP28A (DIP; 28 Rectangular Pins; Row Space 15.24 mm; Pitch 2.54 mm)
pins: 1 A14 (in), 2 A12 (in), 3 A7 (in), 4 A6 (in), 5 A5 (in), 6 A4 (in), 7 A3 (in), 8 A2 (in), 9 A1 (in), 10 A0 (in), 11 DQ0 (io), 12 DQ1 (io), 13 DQ2 (io), 14 GND (power), 15 DQ3 (io), 16 DQ4 (io), 17 DQ5 (io), 18 DQ6 (io), 19 DQ7 (io), 20 ~{CE} (in), 21 A10 (in), 22 ~{OE} (in), 23 A11 (in), 24 A9 (in), 25 A8 (in), 26 A13 (in), 27 ~{WE} (in), 28 VCC (power)

## DS1630Y-70-IND
designator U?
Partitionable 256K Nonvolatile SRAM; Published: 13-Oct-2000; LatestRevisionDate: 17-Jul-2002; LatestRevisionNote: PCB footprint, 'DIP-P28/X1.2' replaced; Re-released for DXP Platform.; DatasheetDocument: 25-Feb-1998; PackageReference: ENDIP28A; Publisher: Altium Limited; ComponentLink1Description: Manufacturer Link; ComponentLink1URL: http://www.maxim-ic.com/
footprint ENDIP28A (DIP; 28 Rectangular Pins; Row Space 15.24 mm; Pitch 2.54 mm)
pins: 1 A14 (in), 2 A12 (in), 3 A7 (in), 4 A6 (in), 5 A5 (in), 6 A4 (in), 7 A3 (in), 8 A2 (in), 9 A1 (in), 10 A0 (in), 11 DQ0 (io), 12 DQ1 (io), 13 DQ2 (io), 14 GND (power), 15 DQ3 (io), 16 DQ4 (io), 17 DQ5 (io), 18 DQ6 (io), 19 DQ7 (io), 20 ~{CE} (in), 21 A10 (in), 22 ~{OE} (in), 23 A11 (in), 24 A9 (in), 25 A8 (in), 26 A13 (in), 27 ~{WE} (in), 28 VCC (power)

## DS1630Y-85
designator U?
Partitionable 256K Nonvolatile SRAM; Published: 13-Oct-2000; LatestRevisionDate: 17-Jul-2002; LatestRevisionNote: PCB footprint, 'DIP-P28/X1.2' replaced; Re-released for DXP Platform.; DatasheetDocument: 25-Feb-1998; PackageReference: ENDIP28A; Publisher: Altium Limited; ComponentLink1Description: Manufacturer Link; ComponentLink1URL: http://www.maxim-ic.com/
footprint ENDIP28A (DIP; 28 Rectangular Pins; Row Space 15.24 mm; Pitch 2.54 mm)
pins: 1 A14 (in), 2 A12 (in), 3 A7 (in), 4 A6 (in), 5 A5 (in), 6 A4 (in), 7 A3 (in), 8 A2 (in), 9 A1 (in), 10 A0 (in), 11 DQ0 (io), 12 DQ1 (io), 13 DQ2 (io), 14 GND (power), 15 DQ3 (io), 16 DQ4 (io), 17 DQ5 (io), 18 DQ6 (io), 19 DQ7 (io), 20 ~{CE} (in), 21 A10 (in), 22 ~{OE} (in), 23 A11 (in), 24 A9 (in), 25 A8 (in), 26 A13 (in), 27 ~{WE} (in), 28 VCC (power)

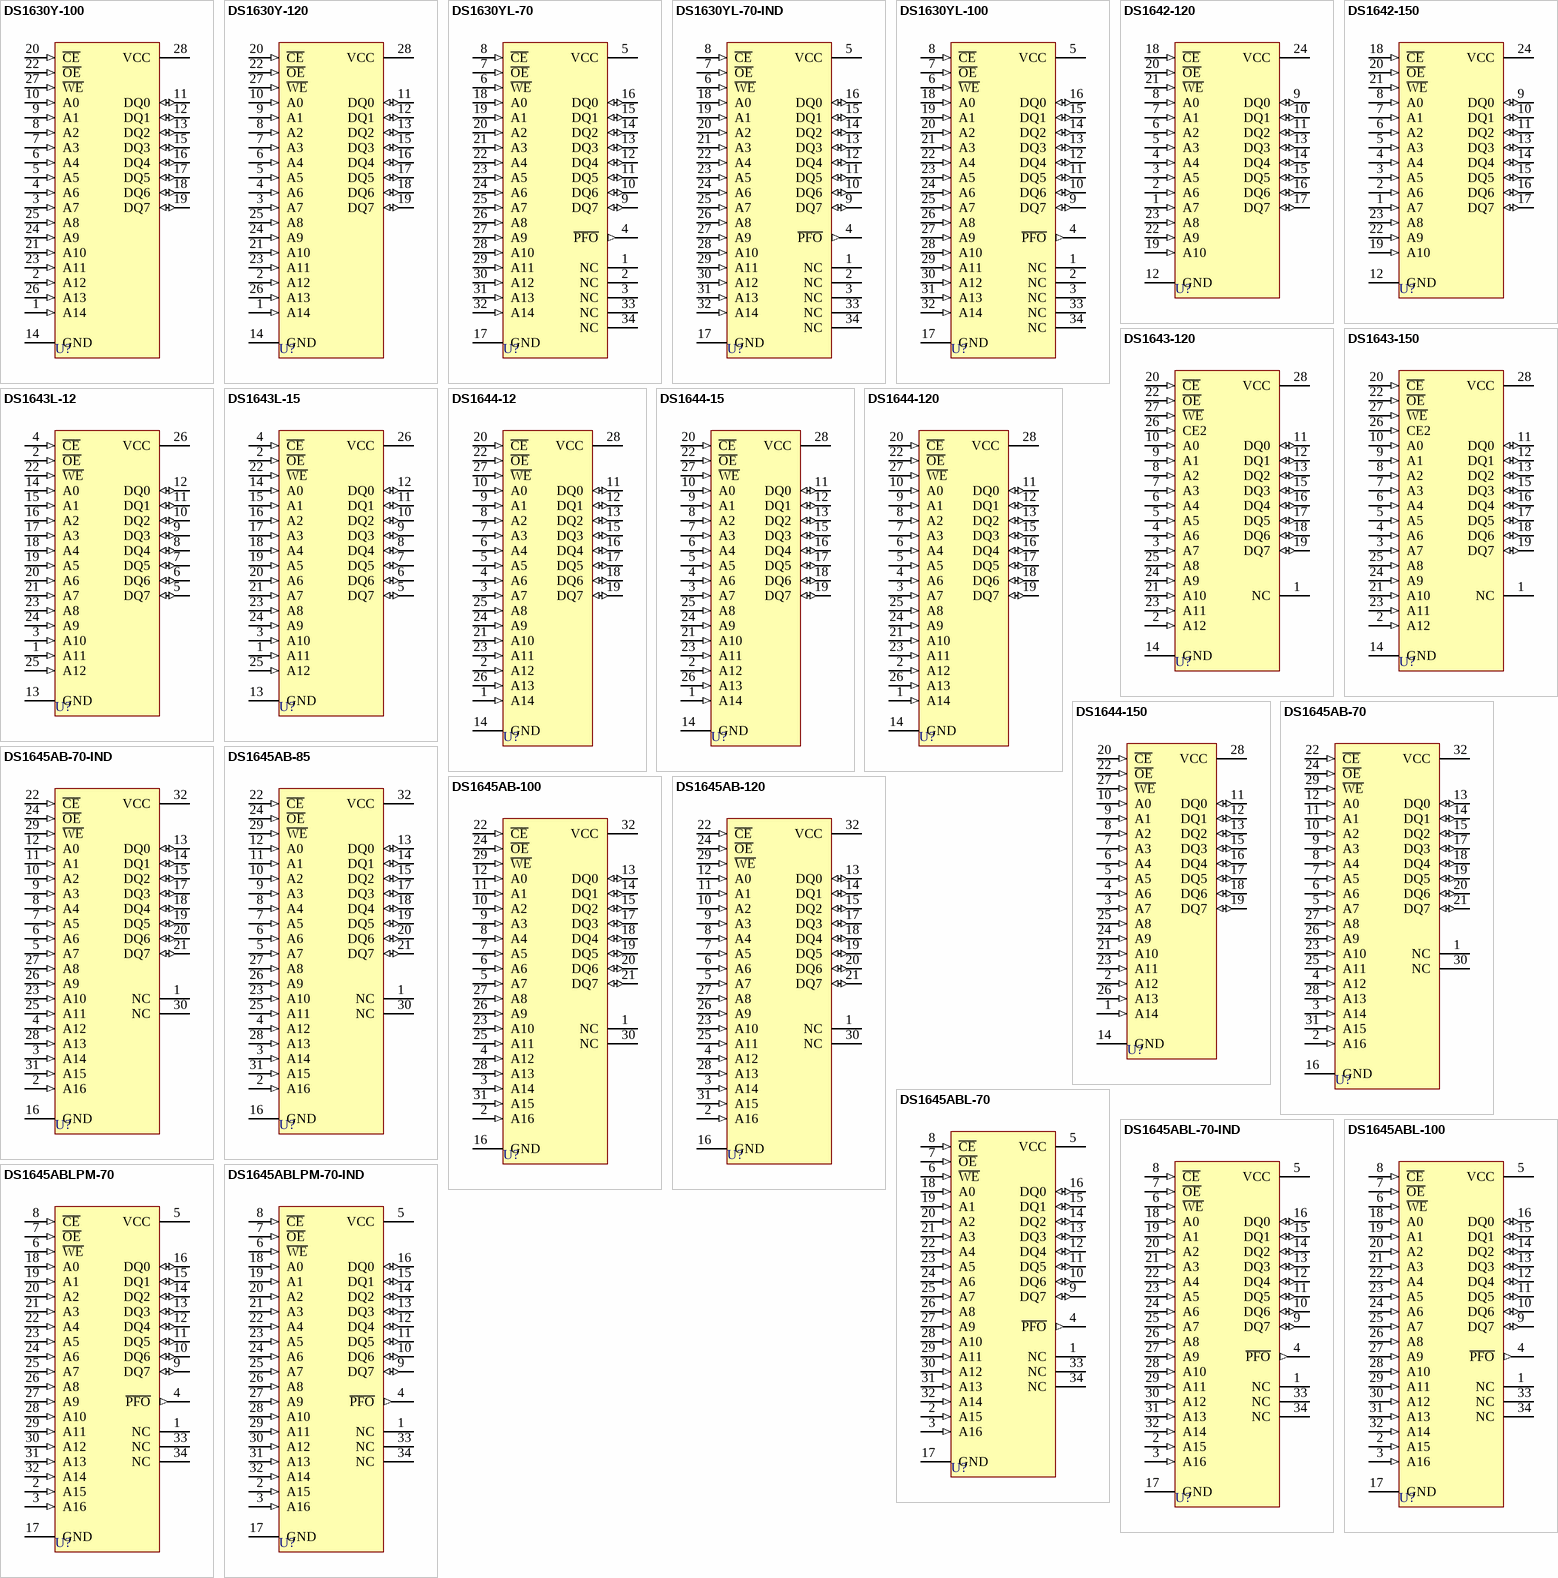
[diagram p6: symbols DS1630Y-100 to DS1645ABLPM-70-IND]

## DS1630Y-100
designator U?
Partitionable 256K Nonvolatile SRAM; Published: 13-Oct-2000; LatestRevisionDate: 17-Jul-2002; LatestRevisionNote: PCB footprint, 'DIP-P28/X1.2' replaced; Re-released for DXP Platform.; DatasheetDocument: 25-Feb-1998; PackageReference: ENDIP28A; Publisher: Altium Limited; ComponentLink1Description: Manufacturer Link; ComponentLink1URL: http://www.maxim-ic.com/
footprint ENDIP28A (DIP; 28 Rectangular Pins; Row Space 15.24 mm; Pitch 2.54 mm)
pins: 1 A14 (in), 2 A12 (in), 3 A7 (in), 4 A6 (in), 5 A5 (in), 6 A4 (in), 7 A3 (in), 8 A2 (in), 9 A1 (in), 10 A0 (in), 11 DQ0 (io), 12 DQ1 (io), 13 DQ2 (io), 14 GND (power), 15 DQ3 (io), 16 DQ4 (io), 17 DQ5 (io), 18 DQ6 (io), 19 DQ7 (io), 20 ~{CE} (in), 21 A10 (in), 22 ~{OE} (in), 23 A11 (in), 24 A9 (in), 25 A8 (in), 26 A13 (in), 27 ~{WE} (in), 28 VCC (power)

## DS1630Y-120
designator U?
Partitionable 256K Nonvolatile SRAM; Published: 13-Oct-2000; LatestRevisionDate: 17-Jul-2002; LatestRevisionNote: PCB footprint, 'DIP-P28/X1.2' replaced; Re-released for DXP Platform.; DatasheetDocument: 25-Feb-1998; PackageReference: ENDIP28A; Publisher: Altium Limited; ComponentLink1Description: Manufacturer Link; ComponentLink1URL: http://www.maxim-ic.com/
footprint ENDIP28A (DIP; 28 Rectangular Pins; Row Space 15.24 mm; Pitch 2.54 mm)
pins: 1 A14 (in), 2 A12 (in), 3 A7 (in), 4 A6 (in), 5 A5 (in), 6 A4 (in), 7 A3 (in), 8 A2 (in), 9 A1 (in), 10 A0 (in), 11 DQ0 (io), 12 DQ1 (io), 13 DQ2 (io), 14 GND (power), 15 DQ3 (io), 16 DQ4 (io), 17 DQ5 (io), 18 DQ6 (io), 19 DQ7 (io), 20 ~{CE} (in), 21 A10 (in), 22 ~{OE} (in), 23 A11 (in), 24 A9 (in), 25 A8 (in), 26 A13 (in), 27 ~{WE} (in), 28 VCC (power)

## DS1630YL-70
designator U?
Partitionable 256K Nonvolatile SRAM; Note: Pin numbers 1, 2, 3, 33 and 34 are Not Connected (NC); Published: 13-Oct-2000; LatestRevisionDate: 17-Jul-2002; LatestRevisionNote: Re-released for DXP Platform.; DatasheetDocument: 25-Feb-1998; PackageDocument: Feb-1998; PackageReference: LPM34; Publisher: Altium Limited; ComponentLink1Description: Manufacturer Link; ComponentLink1URL: http://www.maxim-ic.com/
footprint LPM34 (LPM; 34 Leads; Body 24.6 x 25 mm (LxW typ); Pitch 1.27 mm)
pins: 1 NC, 2 NC, 3 NC, 4 ~{PFO} (out), 5 VCC (power), 6 ~{WE} (in), 7 ~{OE} (in), 8 ~{CE} (in), 9 DQ7 (io), 10 DQ6 (io), 11 DQ5 (io), 12 DQ4 (io), 13 DQ3 (io), 14 DQ2 (io), 15 DQ1 (io), 16 DQ0 (io), 17 GND (power), 18 A0 (in), 19 A1 (in), 20 A2 (in), 21 A3 (in), 22 A4 (in), 23 A5 (in), 24 A6 (in), 25 A7 (in), 26 A8 (in), 27 A9 (in), 28 A10 (in), 29 A11 (in), 30 A12 (in), 31 A13 (in), 32 A14 (in), 33 NC, 34 NC

## DS1630YL-70-IND
designator U?
Partitionable 256K Nonvolatile SRAM; Note: Pin numbers 1, 2, 3, 33 and 34 are Not Connected (NC); Published: 13-Oct-2000; LatestRevisionDate: 17-Jul-2002; LatestRevisionNote: Re-released for DXP Platform.; DatasheetDocument: 25-Feb-1998; PackageDocument: Feb-1998; PackageReference: LPM34; Publisher: Altium Limited; ComponentLink1Description: Manufacturer Link; ComponentLink1URL: http://www.maxim-ic.com/
footprint LPM34 (LPM; 34 Leads; Body 24.6 x 25 mm (LxW typ); Pitch 1.27 mm)
pins: 1 NC, 2 NC, 3 NC, 4 ~{PFO} (out), 5 VCC (power), 6 ~{WE} (in), 7 ~{OE} (in), 8 ~{CE} (in), 9 DQ7 (io), 10 DQ6 (io), 11 DQ5 (io), 12 DQ4 (io), 13 DQ3 (io), 14 DQ2 (io), 15 DQ1 (io), 16 DQ0 (io), 17 GND (power), 18 A0 (in), 19 A1 (in), 20 A2 (in), 21 A3 (in), 22 A4 (in), 23 A5 (in), 24 A6 (in), 25 A7 (in), 26 A8 (in), 27 A9 (in), 28 A10 (in), 29 A11 (in), 30 A12 (in), 31 A13 (in), 32 A14 (in), 33 NC, 34 NC

## DS1630YL-100
designator U?
Partitionable 256K Nonvolatile SRAM; Note: Pin numbers 1, 2, 3, 33 and 34 are Not Connected (NC); Published: 13-Oct-2000; LatestRevisionDate: 17-Jul-2002; LatestRevisionNote: Re-released for DXP Platform.; DatasheetDocument: 25-Feb-1998; PackageDocument: Feb-1998; PackageReference: LPM34; Publisher: Altium Limited; ComponentLink1Description: Manufacturer Link; ComponentLink1URL: http://www.maxim-ic.com/
footprint LPM34 (LPM; 34 Leads; Body 24.6 x 25 mm (LxW typ); Pitch 1.27 mm)
pins: 1 NC, 2 NC, 3 NC, 4 ~{PFO} (out), 5 VCC (power), 6 ~{WE} (in), 7 ~{OE} (in), 8 ~{CE} (in), 9 DQ7 (io), 10 DQ6 (io), 11 DQ5 (io), 12 DQ4 (io), 13 DQ3 (io), 14 DQ2 (io), 15 DQ1 (io), 16 DQ0 (io), 17 GND (power), 18 A0 (in), 19 A1 (in), 20 A2 (in), 21 A3 (in), 22 A4 (in), 23 A5 (in), 24 A6 (in), 25 A7 (in), 26 A8 (in), 27 A9 (in), 28 A10 (in), 29 A11 (in), 30 A12 (in), 31 A13 (in), 32 A14 (in), 33 NC, 34 NC

## DS1642-120
designator U?
Nonvolatile Timekeeping RAM; Published: 13-Oct-2000; LatestRevisionDate: 17-Jul-2002; LatestRevisionNote: PCB footprint, 'DIP-P24/Y1.2' replaced; Re-released for DXP Platform.; DatasheetDocument: 6-Feb-1992; PackageReference: ENDIP24E; Publisher: Altium Limited; ComponentLink1Description: Manufacturer Link; ComponentLink1URL: http://www.maxim-ic.com/; ComponentLink2Description: Datasheet; ComponentLink2URL: http://pdfserv.maxim-ic.com/en/ds/DS1642.pdf
footprint ENDIP24E (DIP; 24 Rectangular Pins; Row Space 15.24 mm; Pitch 2.54 mm)
pins: 1 A7 (in), 2 A6 (in), 3 A5 (in), 4 A4 (in), 5 A3 (in), 6 A2 (in), 7 A1 (in), 8 A0 (in), 9 DQ0 (io), 10 DQ1 (io), 11 DQ2 (io), 12 GND (power), 13 DQ3 (io), 14 DQ4 (io), 15 DQ5 (io), 16 DQ6 (io), 17 DQ7 (io), 18 ~{CE} (in), 19 A10 (in), 20 ~{OE} (in), 21 ~{WE} (in), 22 A9 (in), 23 A8 (in), 24 VCC (power)

## DS1642-150
designator U?
Nonvolatile Timekeeping RAM; Published: 13-Oct-2000; LatestRevisionDate: 17-Jul-2002; LatestRevisionNote: PCB footprint, 'DIP-P24/Y1.2' replaced; Re-released for DXP Platform.; DatasheetDocument: 6-Feb-1992; PackageReference: ENDIP24E; Publisher: Altium Limited; ComponentLink1Description: Manufacturer Link; ComponentLink1URL: http://www.maxim-ic.com/; ComponentLink2Description: Datasheet; ComponentLink2URL: http://pdfserv.maxim-ic.com/en/ds/DS1642.pdf
footprint ENDIP24E (DIP; 24 Rectangular Pins; Row Space 15.24 mm; Pitch 2.54 mm)
pins: 1 A7 (in), 2 A6 (in), 3 A5 (in), 4 A4 (in), 5 A3 (in), 6 A2 (in), 7 A1 (in), 8 A0 (in), 9 DQ0 (io), 10 DQ1 (io), 11 DQ2 (io), 12 GND (power), 13 DQ3 (io), 14 DQ4 (io), 15 DQ5 (io), 16 DQ6 (io), 17 DQ7 (io), 18 ~{CE} (in), 19 A10 (in), 20 ~{OE} (in), 21 ~{WE} (in), 22 A9 (in), 23 A8 (in), 24 VCC (power)

## DS1643-120
designator U?
Nonvolatile Timekeeping RAM; Note: Pin number 1 is Not Connected (NC); Published: 13-Oct-2000; LatestRevisionDate: 17-Jul-2002; LatestRevisionNote: Re-released for DXP Platform.; DatasheetDocument: 16-Mar-1998; PackageReference: ENDIP28F; Publisher: Altium Limited; ComponentLink1Description: Manufacturer Link; ComponentLink1URL: http://www.maxim-ic.com/; ComponentLink2Description: Datasheet; ComponentLink2URL: http://pdfserv.maxim-ic.com/en/ds/DS1643-DS1643P.pdf
footprint ENDIP28F (DIP; 28 Rectangular Pins; Row Space 15.24 mm; Pitch 2.54 mm)
pins: 1 NC, 2 A12 (in), 3 A7 (in), 4 A6 (in), 5 A5 (in), 6 A4 (in), 7 A3 (in), 8 A2 (in), 9 A1 (in), 10 A0 (in), 11 DQ0 (io), 12 DQ1 (io), 13 DQ2 (io), 14 GND (power), 15 DQ3 (io), 16 DQ4 (io), 17 DQ5 (io), 18 DQ6 (io), 19 DQ7 (io), 20 ~{CE} (in), 21 A10 (in), 22 ~{OE} (in), 23 A11 (in), 24 A9 (in), 25 A8 (in), 26 CE2 (in), 27 ~{WE} (in), 28 VCC (power)

## DS1643-150
designator U?
Nonvolatile Timekeeping RAM; Note: Pin number 1 is Not Connected (NC); Published: 13-Oct-2000; LatestRevisionDate: 17-Jul-2002; LatestRevisionNote: Re-released for DXP Platform.; DatasheetDocument: 16-Mar-1998; PackageReference: ENDIP28F; Publisher: Altium Limited; ComponentLink1Description: Manufacturer Link; ComponentLink1URL: http://www.maxim-ic.com/; ComponentLink2Description: Datasheet; ComponentLink2URL: http://pdfserv.maxim-ic.com/en/ds/DS1643-DS1643P.pdf
footprint ENDIP28F (DIP; 28 Rectangular Pins; Row Space 15.24 mm; Pitch 2.54 mm)
pins: 1 NC, 2 A12 (in), 3 A7 (in), 4 A6 (in), 5 A5 (in), 6 A4 (in), 7 A3 (in), 8 A2 (in), 9 A1 (in), 10 A0 (in), 11 DQ0 (io), 12 DQ1 (io), 13 DQ2 (io), 14 GND (power), 15 DQ3 (io), 16 DQ4 (io), 17 DQ5 (io), 18 DQ6 (io), 19 DQ7 (io), 20 ~{CE} (in), 21 A10 (in), 22 ~{OE} (in), 23 A11 (in), 24 A9 (in), 25 A8 (in), 26 CE2 (in), 27 ~{WE} (in), 28 VCC (power)

## DS1643L-12
designator U?
Nonvolatile Timekeeping RAM; Published: 13-Oct-2000; LatestRevisionDate: 17-Jul-2002; LatestRevisionNote: Re-released for DXP Platform.; DatasheetDocument: 17-Mar-1994; PackageDocument: Mar-1994; PackageReference: LPM26; Publisher: Altium Limited; ComponentLink1Description: Manufacturer Link; ComponentLink1URL: http://www.maxim-ic.com/; ComponentLink2Description: Datasheet; ComponentLink2URL: http://pdfserv.maxim-ic.com/en/ds/DS1643-DS1643P.pdf
footprint LPM26 (LPM; 26 Leads; Body 19.3 x 20 mm (LxW typ); Pitch 1.27 mm)
pins: 1 A11 (in), 2 ~{OE} (in), 3 A10 (in), 4 ~{CE} (in), 5 DQ7 (io), 6 DQ6 (io), 7 DQ5 (io), 8 DQ4 (io), 9 DQ3 (io), 10 DQ2 (io), 11 DQ1 (io), 12 DQ0 (io), 13 GND (power), 14 A0 (in), 15 A1 (in), 16 A2 (in), 17 A3 (in), 18 A4 (in), 19 A5 (in), 20 A6 (in), 21 A7 (in), 22 ~{WE} (in), 23 A8 (in), 24 A9 (in), 25 A12 (in), 26 VCC (power)

## DS1643L-15
designator U?
Nonvolatile Timekeeping RAM; Published: 13-Oct-2000; LatestRevisionDate: 17-Jul-2002; LatestRevisionNote: Re-released for DXP Platform.; DatasheetDocument: 17-Mar-1994; PackageDocument: Mar-1994; PackageReference: LPM26; Publisher: Altium Limited; ComponentLink1Description: Manufacturer Link; ComponentLink1URL: http://www.maxim-ic.com/; ComponentLink2Description: Datasheet; ComponentLink2URL: http://pdfserv.maxim-ic.com/en/ds/DS1643-DS1643P.pdf
footprint LPM26 (LPM; 26 Leads; Body 19.3 x 20 mm (LxW typ); Pitch 1.27 mm)
pins: 1 A11 (in), 2 ~{OE} (in), 3 A10 (in), 4 ~{CE} (in), 5 DQ7 (io), 6 DQ6 (io), 7 DQ5 (io), 8 DQ4 (io), 9 DQ3 (io), 10 DQ2 (io), 11 DQ1 (io), 12 DQ0 (io), 13 GND (power), 14 A0 (in), 15 A1 (in), 16 A2 (in), 17 A3 (in), 18 A4 (in), 19 A5 (in), 20 A6 (in), 21 A7 (in), 22 ~{WE} (in), 23 A8 (in), 24 A9 (in), 25 A12 (in), 26 VCC (power)

## DS1644-12
designator U?
Nonvolatile Timekeeping RAM; Published: 13-Oct-2000; LatestRevisionDate: 17-Jul-2002; LatestRevisionNote: Re-released for DXP Platform.; DatasheetDocument: 17-Mar-1994; PackageReference: ENDIP28F; Publisher: Altium Limited; ComponentLink1Description: Manufacturer Link; ComponentLink1URL: http://www.maxim-ic.com/; ComponentLink2Description: Datasheet; ComponentLink2URL: http://pdfserv.maxim-ic.com/en/ds/DS1644-DS1644P.pdf
footprint ENDIP28F (DIP; 28 Rectangular Pins; Row Space 15.24 mm; Pitch 2.54 mm)
pins: 1 A14 (in), 2 A12 (in), 3 A7 (in), 4 A6 (in), 5 A5 (in), 6 A4 (in), 7 A3 (in), 8 A2 (in), 9 A1 (in), 10 A0 (in), 11 DQ0 (io), 12 DQ1 (io), 13 DQ2 (io), 14 GND (power), 15 DQ3 (io), 16 DQ4 (io), 17 DQ5 (io), 18 DQ6 (io), 19 DQ7 (io), 20 ~{CE} (in), 21 A10 (in), 22 ~{OE} (in), 23 A11 (in), 24 A9 (in), 25 A8 (in), 26 A13 (in), 27 ~{WE} (in), 28 VCC (power)